# Altium schematic symbol library SCH - MCU - ATMEGA - MICROCHIP ATMEGA32L-8MU QFN44.SchLib: 1 symbol
Pins are listed as number, name and electrical type; pins without a type are passive.

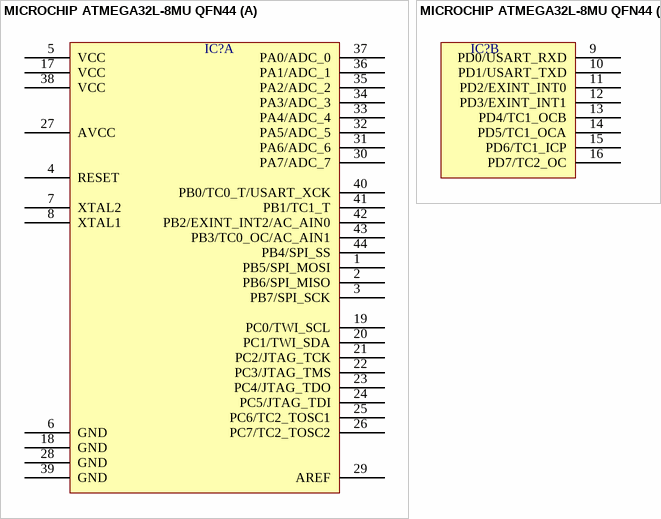
[diagram p0: symbol MICROCHIP ATMEGA32L-8MU QFN44]

## MICROCHIP ATMEGA32L-8MU QFN44
designator IC?  (value not drawn)
part A pins: 1 PB5/SPI_MOSI, 2 PB6/SPI_MISO, 3 PB7/SPI_SCK, 4 RESET, 5 VCC, 6 GND, 7 XTAL2, 8 XTAL1, 17 VCC, 18 GND, 19 PC0/TWI_SCL, 20 PC1/TWI_SDA, 21 PC2/JTAG_TCK, 22 PC3/JTAG_TMS, 23 PC4/JTAG_TDO, 24 PC5/JTAG_TDI, 25 PC6/TC2_TOSC1, 26 PC7/TC2_TOSC2, 27 AVCC, 28 GND, 29 AREF, 30 PA7/ADC_7, 31 PA6/ADC_6, 32 PA5/ADC_5, 33 PA4/ADC_4, 34 PA3/ADC_3, 35 PA2/ADC_2, 36 PA1/ADC_1, 37 PA0/ADC_0, 38 VCC, 39 GND, 40 PB0/TC0_T/USART_XCK, 41 PB1/TC1_T, 42 PB2/EXINT_INT2/AC_AIN0, 43 PB3/TC0_OC/AC_AIN1, 44 PB4/SPI_SS
part B pins: 9 PD0/USART_RXD, 10 PD1/USART_TXD, 11 PD2/EXINT_INT0, 12 PD3/EXINT_INT1, 13 PD4/TC1_OCB, 14 PD5/TC1_OCA, 15 PD6/TC1_ICP, 16 PD7/TC2_OC